# Altium footprint library BUCKCONVERTER-V1L1.PcbLib: 33 footprints (part 3 of 3)
Each footprint in its own frame and in the unit in brackets; x right, y up, seen from the top. Pads: shape width x height; smd on the part's side, far side on the other; paste and mask are expansions set on the pad; w line width, h text height; cw(c..) or ccw(c..) is an arc to the next point about the centre after c.
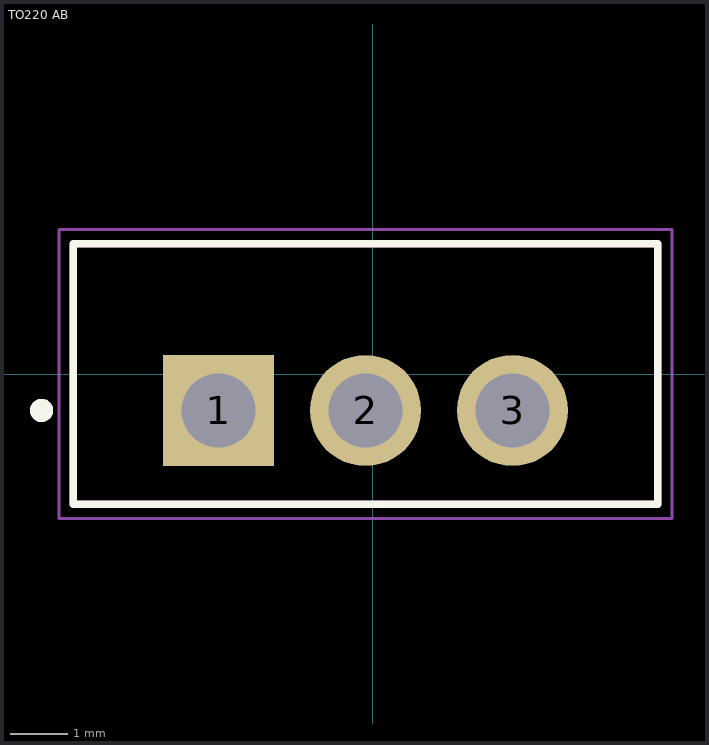
[diagram p2: the footprint, top view; thin cyan lines are the x and y axes]

## TO220 AB [mm]
pads (3):
  rect 1.92x1.92 / inner round 1.92 / far side rect 1.92x1.92 hole 1.28: 1(-2.667,-0.63)
  round 1.92 hole 1.28: 2(-0.127,-0.63) 3(2.413,-0.63)
Top Overlay:
  circle w0.2: c-5.727,-0.63 r0.1
  lines w0.127: -5.177,-2.25 -5.177,2.25 4.923,2.25 4.923,-2.25 -5.177,-2.25
Mechanical 13:
  circle w0.2: c-5.727,-0.63 r0.1
  lines w0.127: -5.177,-2.25 -5.177,2.25 4.923,2.25 4.923,-2.25 -5.177,-2.25
Mechanical 15:
  lines w0.05: -5.427,-2.5 -5.427,2.5 5.173,2.5 5.173,-2.5 -5.427,-2.5
3D body "step_temp.STEP": height 18.9, standoff -10, extent -5.282,-2.25 5.028,2.25